# Altium schematic symbol library AFA07-S20FCA-00.SchLib: 1 symbol
Pins are listed as number, name and electrical type; pins without a type are passive.

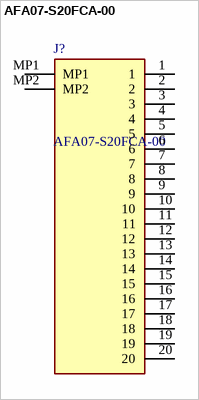
[diagram p0: symbol AFA07-S20FCA-00]

## AFA07-S20FCA-00
designator J?
FFC, FPC Connectors P=1mm RoHS; Manufacturer_Name: JUSHUO; Geometry.Height: 2.5mm; Manufacturer_Part_Number: AFA07-S20FCA-00; Mouser Part Number: *; Mouser Price/Stock: *; Arrow Part Number: *; Arrow Price/Stock: *; Datasheet Link: https://datasheet.lcsc.com/szlcsc/JUSHUO-AFA07-S20FCA-00_C262724.pdf
footprint AFA07S20FCA00
pins: 1, 2, 3, 4, 5, 6, 7, 8, 9, 10, 11, 12, 13, 14, 15, 16, 17, 18, 19, 20, MP1, MP2